# EAGLE library part OSA-2FORM-A (library relay)
RELAY
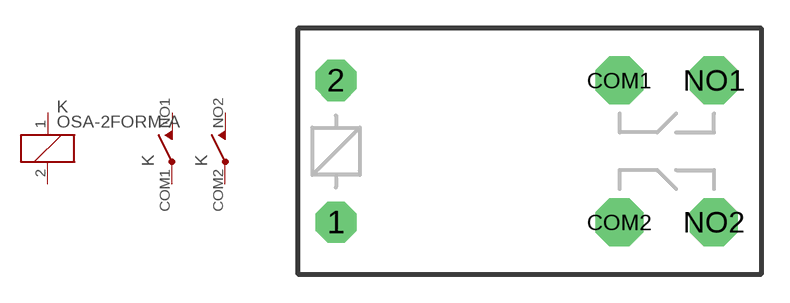
[diagram p58: symbol with the pads of OSA-2FORM-A; footprint OSA-2FORM-A]

Designator prefix K; gates G$1=K -A=S -B=S

## OSA-2FORM-A  [OSA-2FORM-A]
1  G$1:1  pas
2  G$1:2  pas
COM1  -A:COM  pas
COM2  -B:COM  pas
NO1  -A:NO  pas
NO2  -B:NO  pas

## Footprint OSA-2FORM-A (pad centres in mm)
RELAY Tyco OSA Series
drill 1.016 pad 2.184 octagon: 1 0,-3.75; 2 0,3.75
drill 1.27 pad 2.54 octagon: COM1 15,3.75; COM2 15,-3.75; NO1 20,3.75; NO2 20,-3.75